# EAGLE library part RM191 (library MarAlert)
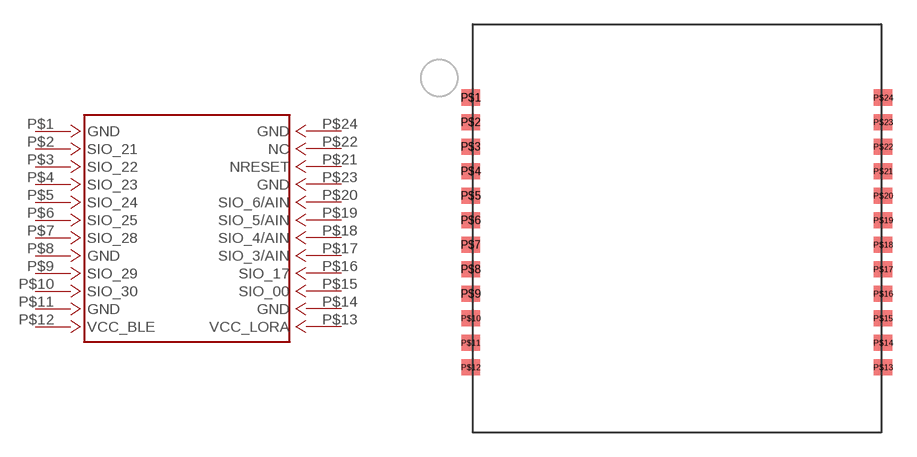
[diagram p3: symbol with the pads of RM191; footprint RM191]

Designator prefix -

## RM191RM1XX  [RM191]
P$1  GND
P$2  SIO_21
P$3  SIO_22
P$4  SIO_23
P$5  SIO_24
P$6  SIO_25
P$7  SIO_28
P$8  GND
P$9  SIO_29
P$10  SIO_30
P$11  GND
P$12  VCC_BLE
P$13  VCC_LORA
P$14  GND
P$15  SIO_00
P$16  SIO_17
P$17  SIO_3/AIN
P$18  SIO_4/AIN
P$19  SIO_5/AIN
P$20  SIO_6/AIN
P$21  NRESET
P$22  NC
P$23  GND
P$24  GND

## Footprint RM191 (pad centres in mm)
smd 1.143 x 1.016: P$1 -12.827,8.382; P$2 -12.827,6.858; P$3 -12.827,5.334; P$4 -12.827,3.81; P$5 -12.827,2.286; P$6 -12.827,0.762; P$7 -12.827,-0.762; P$8 -12.827,-2.286; P$9 -12.827,-3.81; P$10 -12.827,-5.334; P$11 -12.827,-6.858; P$12 -12.827,-8.382; P$13 12.827,-8.382; P$14 12.827,-6.858; P$15 12.827,-5.334; P$16 12.827,-3.81; P$17 12.827,-2.286; P$18 12.827,-0.762; P$19 12.827,0.762; P$20 12.827,2.286; P$21 12.827,3.81; P$22 12.827,5.334; P$23 12.827,6.858; P$24 12.827,8.382